# Altium footprint library Arduino_Uno_V1I1_PCBLib.PcbLib: 2 footprints
Each footprint in its own frame and in the unit in brackets; x right, y up, seen from the top. Pads: shape width x height; smd on the part's side, far side on the other; paste and mask are expansions set on the pad; w line width, h text height; cw(c..) or ccw(c..) is an arc to the next point about the centre after c.
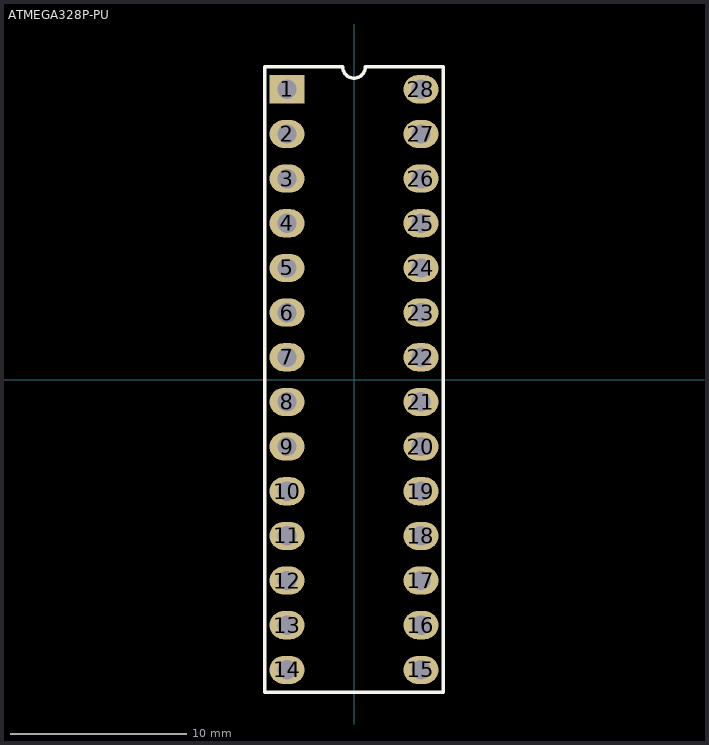
[diagram p0: the footprints below, top view; thin cyan lines are the x and y axes]

## ATMEGA328P-PU [mm]
pads (28):
  rect 2x1.6 hole 1.1: 1(-3.81,16.51)
  oval 2x1.6 hole 1.1: 2(-3.81,13.97) 3(-3.81,11.43) 4(-3.81,8.89) 5(-3.81,6.35) 6(-3.81,3.81) 7(-3.81,1.27) 8(-3.81,-1.27) 9(-3.81,-3.81) 10(-3.81,-6.35) 11(-3.81,-8.89) 12(-3.81,-11.43) 13(-3.81,-13.97) 14(-3.81,-16.51) 15(3.81,-16.51) 16(3.81,-13.97) 17(3.81,-11.43) 18(3.81,-8.89) 19(3.81,-6.35) 20(3.81,-3.81) 21(3.81,-1.27) 22(3.81,1.27) 23(3.81,3.81) 24(3.81,6.35) 25(3.81,8.89) 26(3.81,11.43) 27(3.81,13.97) 28(3.81,16.51)
Top Overlay:
  lines w0.2: -5.08,-17.78 -5.08,17.78 -0.635,17.78 ccw(c0,17.78) 0.635,17.78 5.08,17.78 5.08,-17.78 -5.08,-17.78
3D body "ATMEGA328P-PU--3DModel-STEP-56544.STEP": height 4.67, standoff -3.33, extent -3.95,-17.335 3.95,17.336

## PCBComponent_1 [mm]